# Altium schematic symbol library ANTENNA.SchLib: 2 symbols
Pins are listed as number, name and electrical type; pins without a type are passive.

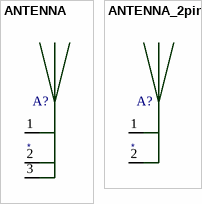
[diagram p0: symbols ANTENNA to ANTENNA_2pin]

## ANTENNA
designator A?
ID: *; PDF: *; BUY_LINK: *; PRICE: *
pins: 1, 2, 3

## ANTENNA_2pin
designator A?
ID: *; PDF: *; BUY_LINK: *; PRICE: *
footprint SMA_CON
footprint ANTENNA_1575AT43A40
pins: 1, 2